# Altium footprint library DIP-Q  0607.PCBlib: 66 footprints (part 1 of 5)
Each footprint in its own frame and in the unit in brackets; x right, y up, seen from the top. Pads: shape width x height; smd on the part's side, far side on the other; paste and mask are expansions set on the pad; w line width, h text height; cw(c..) or ccw(c..) is an arc to the next point about the centre after c.
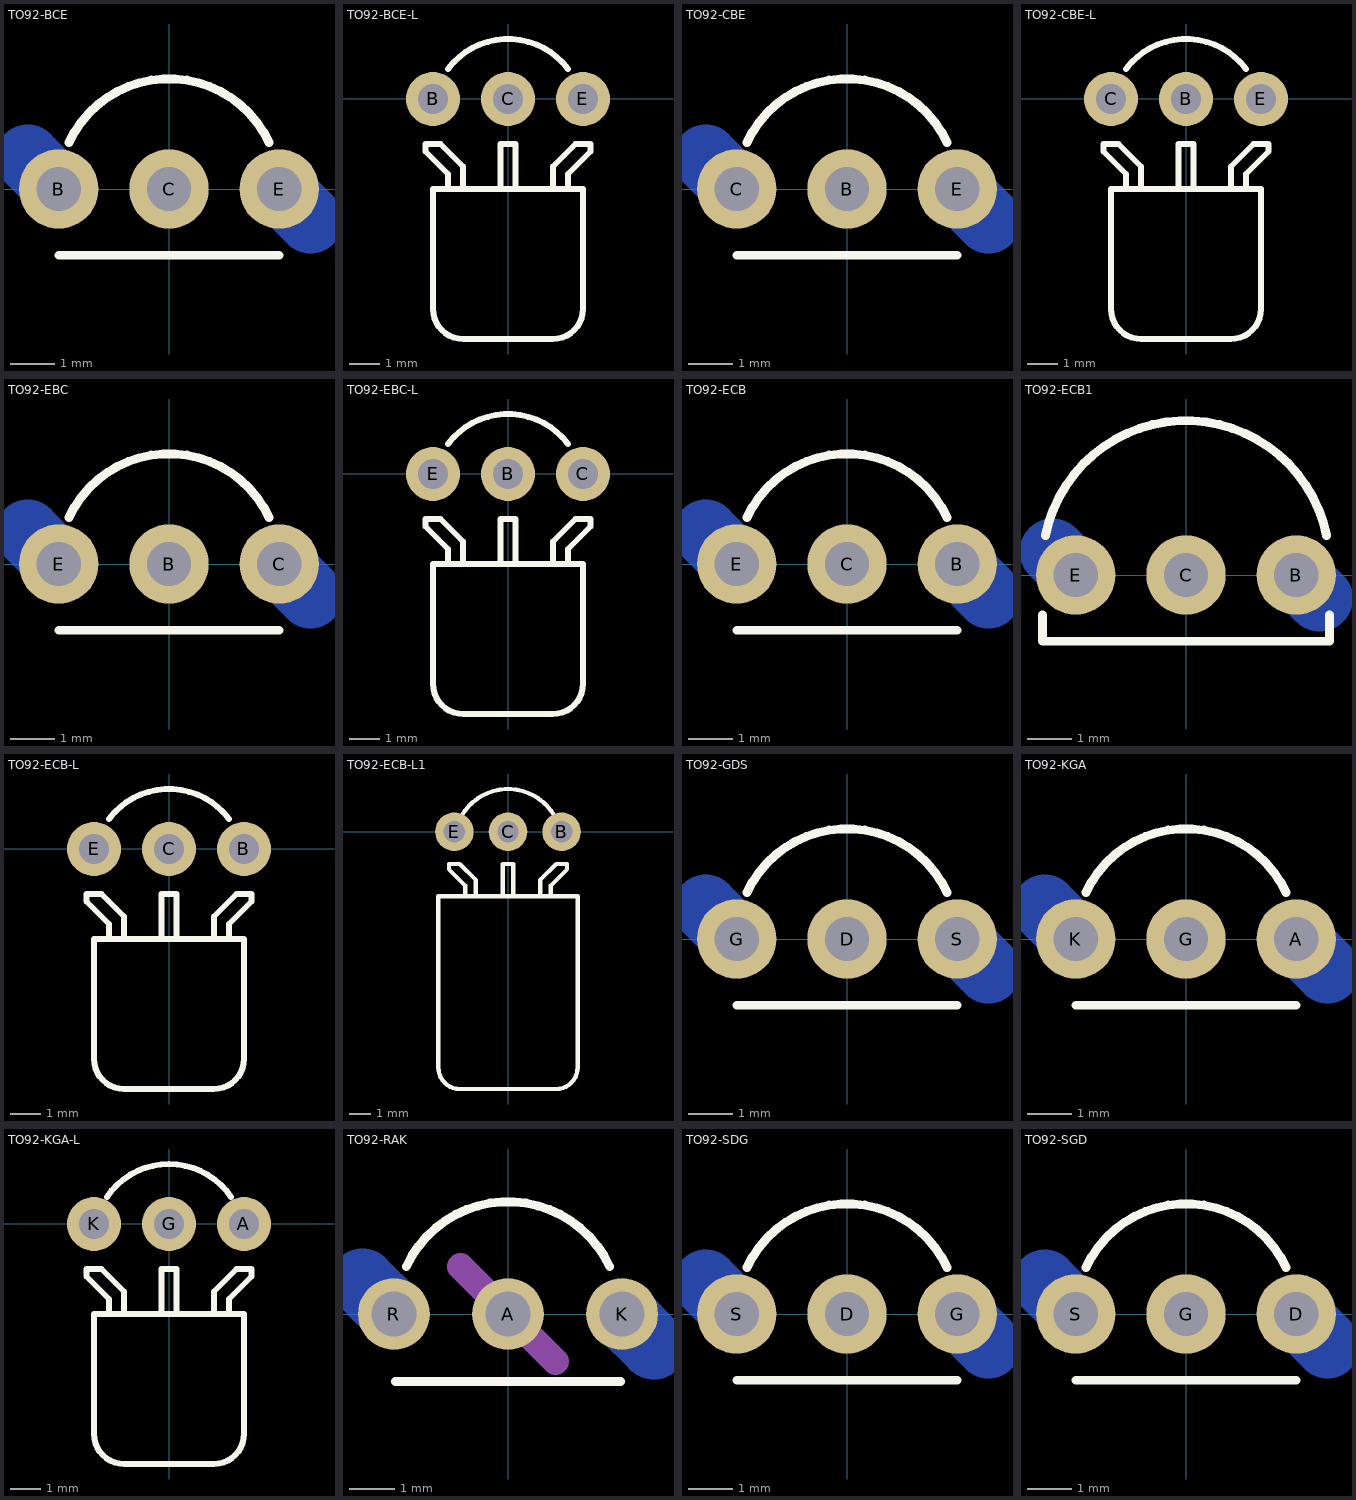
[diagram p0: the footprints below, top view; thin cyan lines are the x and y axes]

## TO92-BCE [mm]
height 10.4
pads (3):
  round 1.8 hole 1: B(-2.5,0) C(0,0) E(2.5,0)
Bottom Layer:
  lines w1.5: -3.207,0.707 -2.5,0 ; 2.5,0 3.207,-0.707
Top Overlay:
  lines w0.2: -2.5,-1.5 2.5,-1.5 ; -2.266,1.057 cw(c0,0) 2.266,1.057
Bottom Overlay:
  lines w0.4: -1.25,-1 -1.25,1 ; 1.25,-1 1.25,1
Bottom Solder:
  lines w1: -3.207,0.707 -2.5,0 ; 2.5,0 3.207,-0.707

## TO92-BCE-L [mm]
height 4.2
pads (3):
  round 1.8 hole 1: B(-2.5,0) C(0,0) E(2.5,0)
Top Overlay:
  lines w0.2: -1.997,1.005 cw(c0,-0.5) 1.997,1.005 ; -0.25,-3 -0.25,-1.5 0.25,-1.5 0.25,-3 ; -2.75,-1.75 -2,-2.5 -2,-3 -1.5,-3 -1.5,-2.25 -2.25,-1.5 -2.75,-1.5 -2.75,-1.75 ; -2.5,-7 ccw(c-1.5,-7) -1.5,-8 1.5,-8 ccw(c1.5,-7) 2.5,-7 2.5,-3 -2.5,-3 -2.5,-7 ; 1.5,-3 1.5,-2.25 2.25,-1.5 2.75,-1.5 2.75,-1.75 2,-2.5 2,-3 1.5,-3
Bottom Overlay:
  lines w0.4: -1.25,-1 -1.25,1 ; 1.25,-1 1.25,1

## TO92-CBE [mm]
height 10.4
pads (3):
  round 1.8 hole 1: B(0,0) C(-2.5,0) E(2.5,0)
Bottom Layer:
  lines w1.5: -3.207,0.707 -2.5,0 ; 2.5,0 3.207,-0.707
Top Overlay:
  lines w0.2: -2.5,-1.5 2.5,-1.5 ; -2.266,1.057 cw(c0,0) 2.266,1.057
Bottom Overlay:
  lines w0.4: -1.25,-1 -1.25,1 ; 1.25,-1 1.25,1
Bottom Solder:
  lines w1: -3.207,0.707 -2.5,0 ; 2.5,0 3.207,-0.707

## TO92-CBE-L [mm]
height 4.2
pads (3):
  round 1.8 hole 1: B(0,0) C(-2.5,0) E(2.5,0)
Top Overlay:
  lines w0.2: -1.997,1.005 cw(c0,-0.5) 1.997,1.005 ; -0.25,-3 -0.25,-1.5 0.25,-1.5 0.25,-3 ; -2.75,-1.75 -2,-2.5 -2,-3 -1.5,-3 -1.5,-2.25 -2.25,-1.5 -2.75,-1.5 -2.75,-1.75 ; -2.5,-7 ccw(c-1.5,-7) -1.5,-8 1.5,-8 ccw(c1.5,-7) 2.5,-7 2.5,-3 -2.5,-3 -2.5,-7 ; 1.5,-3 1.5,-2.25 2.25,-1.5 2.75,-1.5 2.75,-1.75 2,-2.5 2,-3 1.5,-3
Bottom Overlay:
  lines w0.4: -1.25,-1 -1.25,1 ; 1.25,-1 1.25,1

## TO92-EBC [mm]
height 10.4
pads (3):
  round 1.8 hole 1: B(0,0) C(2.5,0) E(-2.5,0)
Bottom Layer:
  lines w1.5: -3.207,0.707 -2.5,0 ; 2.5,0 3.207,-0.707
Top Overlay:
  lines w0.2: -2.5,-1.5 2.5,-1.5 ; -2.266,1.057 cw(c0,0) 2.266,1.057
Bottom Overlay:
  lines w0.4: -1.25,-1 -1.25,1 ; 1.25,-1 1.25,1
Bottom Solder:
  lines w1: -3.207,0.707 -2.5,0 ; 2.5,0 3.207,-0.707

## TO92-EBC-L [mm]
height 4.2
pads (3):
  round 1.8 hole 1: B(0,0) C(2.5,0) E(-2.5,0)
Top Overlay:
  lines w0.2: -1.997,1.005 cw(c0,-0.5) 1.997,1.005 ; -0.25,-3 -0.25,-1.5 0.25,-1.5 0.25,-3 ; -2.75,-1.75 -2.75,-1.5 -2.25,-1.5 -1.5,-2.25 -1.5,-3 -2,-3 -2,-2.5 -2.75,-1.75 ; -2.5,-7 ccw(c-1.5,-7) -1.5,-8 1.5,-8 ccw(c1.5,-7) 2.5,-7 2.5,-3 -2.5,-3 -2.5,-7 ; 1.5,-3 2,-3 2,-2.5 2.75,-1.75 2.75,-1.5 2.25,-1.5 1.5,-2.25 1.5,-3
Bottom Overlay:
  lines w0.4: -1.25,-1 -1.25,1 ; 1.25,-1 1.25,1

## TO92-ECB [mm]
height 10.4
pads (3):
  round 1.8 hole 1: B(2.5,0) C(0,0) E(-2.5,0)
Bottom Layer:
  lines w1.5: -3.207,0.707 -2.5,0 ; 2.5,0 3.207,-0.707
Top Overlay:
  lines w0.2: -2.5,-1.5 2.5,-1.5 ; -2.266,1.057 cw(c0,0) 2.266,1.057
Bottom Overlay:
  lines w0.4: -1.25,-1 -1.25,1 ; 1.25,-1 1.25,1
Bottom Solder:
  lines w1: -3.207,0.707 -2.5,0 ; 2.5,0 3.207,-0.707

## TO92-ECB1 [mm]
height 10.4
pads (3):
  round 1.8 hole 1: B(2.5,0) C(0,0) E(-2.5,0)
Bottom Layer:
  lines w1.5: -3.03,0.53 -2.5,0 ; 2.5,0 3.03,-0.53
Top Overlay:
  lines w0.2: -3.25,-0.9 -3.25,-1.5 3.25,-1.5 3.25,-0.9 ; -3.185,0.897 cw(c0,0.25) 3.185,0.897
Bottom Overlay:
  lines w0.4: -1.25,-1 -1.25,1 ; 1.25,-1 1.25,1
Bottom Solder:
  lines w1: -3.03,0.53 -2.5,0 ; 2.5,0 3.03,-0.53

## TO92-ECB-L [mm]
height 4.2
pads (3):
  round 1.8 hole 1: B(2.5,0) C(0,0) E(-2.5,0)
Top Overlay:
  lines w0.2: -1.997,1.005 cw(c0,-0.5) 1.997,1.005 ; -0.25,-3 -0.25,-1.5 0.25,-1.5 0.25,-3 ; -2.75,-1.75 -2.75,-1.5 -2.25,-1.5 -1.5,-2.25 -1.5,-3 -2,-3 -2,-2.5 -2.75,-1.75 ; -2.5,-7 ccw(c-1.5,-7) -1.5,-8 1.5,-8 ccw(c1.5,-7) 2.5,-7 2.5,-3 -2.5,-3 -2.5,-7 ; 1.5,-3 2,-3 2,-2.5 2.75,-1.75 2.75,-1.5 2.25,-1.5 1.5,-2.25 1.5,-3
Bottom Overlay:
  lines w0.4: -1.25,-1 -1.25,1 ; 1.25,-1 1.25,1

## TO92-ECB-L1 [mm]
height 4.2
pads (3):
  round 1.8 hole 1: B(2.5,0) C(0,0) E(-2.5,0)
Top Overlay:
  lines w0.2: -2.165,0.75 cw(c0,-0.5) 2.165,0.75 ; -0.25,-3 -0.25,-1.5 0.25,-1.5 0.25,-3 ; -3.25,-11 ccw(c-2.25,-11) -2.25,-12 2.25,-12 ccw(c2.25,-11) 3.25,-11 3.25,-3 -3.25,-3 -3.25,-11 ; -2.75,-1.75 -2,-2.5 -2,-3 -1.5,-3 -1.5,-2.25 -2.25,-1.5 -2.75,-1.5 -2.75,-1.75 ; 1.5,-3 1.5,-2.25 2.25,-1.5 2.75,-1.5 2.75,-1.75 2,-2.5 2,-3 1.5,-3
Bottom Overlay:
  lines w0.4: -1.25,-1 -1.25,1 ; 1.25,-1 1.25,1

## TO92-GDS [mm]
height 10.4
pads (3):
  round 1.8 hole 1: D(0,0) G(-2.5,0) S(2.5,0)
Bottom Layer:
  lines w1.5: -3.207,0.707 -2.5,0 ; 2.5,0 3.207,-0.707
Top Overlay:
  lines w0.2: -2.5,-1.5 2.5,-1.5 ; -2.266,1.057 cw(c0,0) 2.266,1.057
Bottom Overlay:
  lines w0.4: -1.25,-1 -1.25,1 ; 1.25,-1 1.25,1
Bottom Solder:
  lines w1: -3.207,0.707 -2.5,0 ; 2.5,0 3.207,-0.707

## TO92-KGA [mm]
height 10.4
pads (3):
  round 1.8 hole 1: A(2.5,0) G(0,0) K(-2.5,0)
Bottom Layer:
  lines w1.5: -3.207,0.707 -2.5,0 ; 2.5,0 3.207,-0.707
Top Overlay:
  lines w0.2: -2.5,-1.5 2.5,-1.5 ; -2.266,1.057 cw(c0,0) 2.266,1.057
Bottom Overlay:
  lines w0.4: -1.25,-1 -1.25,1 ; 1.25,-1 1.25,1
Bottom Solder:
  lines w1: -3.207,0.707 -2.5,0 ; 2.5,0 3.207,-0.707

## TO92-KGA-L [mm]
height 4.2
pads (3):
  round 1.8 hole 1: A(2.5,0) G(0,0) K(-2.5,0)
Top Overlay:
  lines w0.2: -2.073,0.898 cw(c0,-0.5) 2.073,0.898 ; -0.25,-3 -0.25,-1.5 0.25,-1.5 0.25,-3 ; -2.75,-1.75 -2.75,-1.5 -2.25,-1.5 -1.5,-2.25 -1.5,-3 -2,-3 -2,-2.5 -2.75,-1.75 ; -2.5,-7 ccw(c-1.5,-7) -1.5,-8 1.5,-8 ccw(c1.5,-7) 2.5,-7 2.5,-3 -2.5,-3 -2.5,-7 ; 1.5,-3 2,-3 2,-2.5 2.75,-1.75 2.75,-1.5 2.25,-1.5 1.5,-2.25 1.5,-3
Bottom Overlay:
  lines w0.4: -1.25,-1 -1.25,1 ; 1.25,-1 1.25,1

## TO92-RAK [mm]
pads (3):
  round 1.6 hole 1: A(0,0) K(2.54,0) R(-2.54,0)
Bottom Layer:
  lines w1.5: -3.247,0.707 -2.54,0 ; 2.54,0 3.247,-0.707
Top Overlay:
  lines w0.2: -2.5,-1.5 2.5,-1.5 ; -2.266,1.057 cw(c0,0) 2.266,1.057
Bottom Overlay:
  lines w0.8: -1.27,-1.143 -1.27,1.143 ; 1.27,-1.143 1.27,1.143
Bottom Solder:
  lines w1: -3.247,0.707 -2.54,0 ; 2.54,0 3.247,-0.707
Mechanical 7:
  lines w0.6: -1.061,1.061 0,0 1.061,-1.061

## TO92-SDG [mm]
height 10.4
pads (3):
  round 1.8 hole 1: D(0,0) G(2.5,0) S(-2.5,0)
Bottom Layer:
  lines w1.5: -3.207,0.707 -2.5,0 ; 2.5,0 3.207,-0.707
Top Overlay:
  lines w0.2: -2.5,-1.5 2.5,-1.5 ; -2.266,1.057 cw(c0,0) 2.266,1.057
Bottom Overlay:
  lines w0.4: -1.25,-1 -1.25,1 ; 1.25,-1 1.25,1
Bottom Solder:
  lines w1: -3.207,0.707 -2.5,0 ; 2.5,0 3.207,-0.707

## TO92-SGD [mm]
height 10.4
pads (3):
  round 1.8 hole 1: D(2.5,0) G(0,0) S(-2.5,0)
Bottom Layer:
  lines w1.5: -3.207,0.707 -2.5,0 ; 2.5,0 3.207,-0.707
Top Overlay:
  lines w0.2: -2.5,-1.5 2.5,-1.5 ; -2.266,1.057 cw(c0,0) 2.266,1.057
Bottom Overlay:
  lines w0.4: -1.25,-1 -1.25,1 ; 1.25,-1 1.25,1
Bottom Solder:
  lines w1: -3.207,0.707 -2.5,0 ; 2.5,0 3.207,-0.707